# EAGLE library part MAX6818 (library MAX6818)
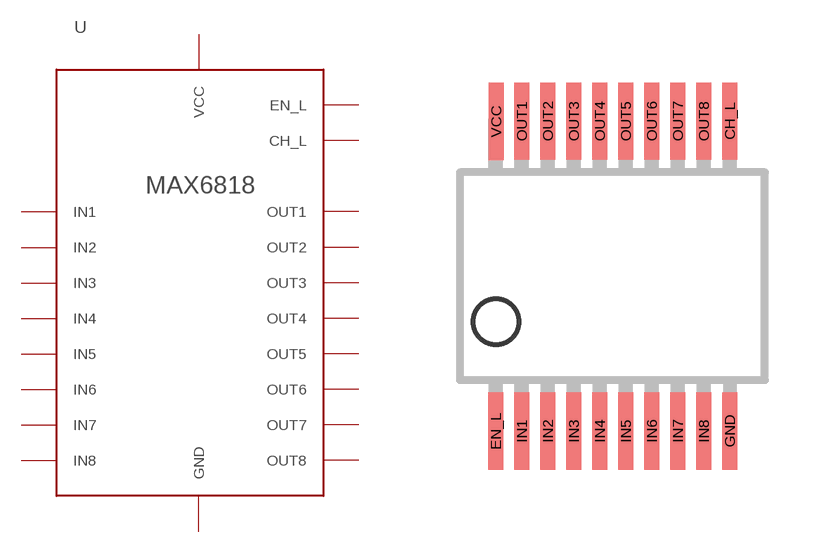
[diagram p0: symbol with the pads of SSOP20; footprint SSOP20]

Designator prefix -

## MAX6818 (Availability: Unavailable; MF: Maxim Integrated; MP: MAX6818; Package: None; Price: None)  [SSOP20]
CH_L  CH_L
EN_L  EN_L
GND  GND
IN1  IN1
IN2  IN2
IN3  IN3
IN4  IN4
IN5  IN5
IN6  IN6
IN7  IN7
IN8  IN8
OUT1  OUT1
OUT2  OUT2
OUT3  OUT3
OUT4  OUT4
OUT5  OUT5
OUT6  OUT6
OUT7  OUT7
OUT8  OUT8
VCC  VCC

## Footprint SSOP20 (pad centres in mm)
Shrink Small Outline Package package type SS
smd 0.381 x 1.93: CH_L 2.925,3.879; EN_L -2.925,-3.879; GND 2.925,-3.879; IN1 -2.275,-3.879; IN2 -1.625,-3.879; IN3 -0.975,-3.879; IN4 -0.325,-3.879; IN5 0.325,-3.879; IN6 0.975,-3.879; IN7 1.625,-3.879; IN8 2.275,-3.879; OUT1 -2.275,3.879; OUT2 -1.625,3.879; OUT3 -0.975,3.879; OUT4 -0.325,3.879; OUT5 0.325,3.879; OUT6 0.975,3.879; OUT7 1.625,3.879; OUT8 2.275,3.879; VCC -2.917,3.868